# Altium integrated library Generalplus Devices.IntLib: 35 symbols (part 2 of 2)
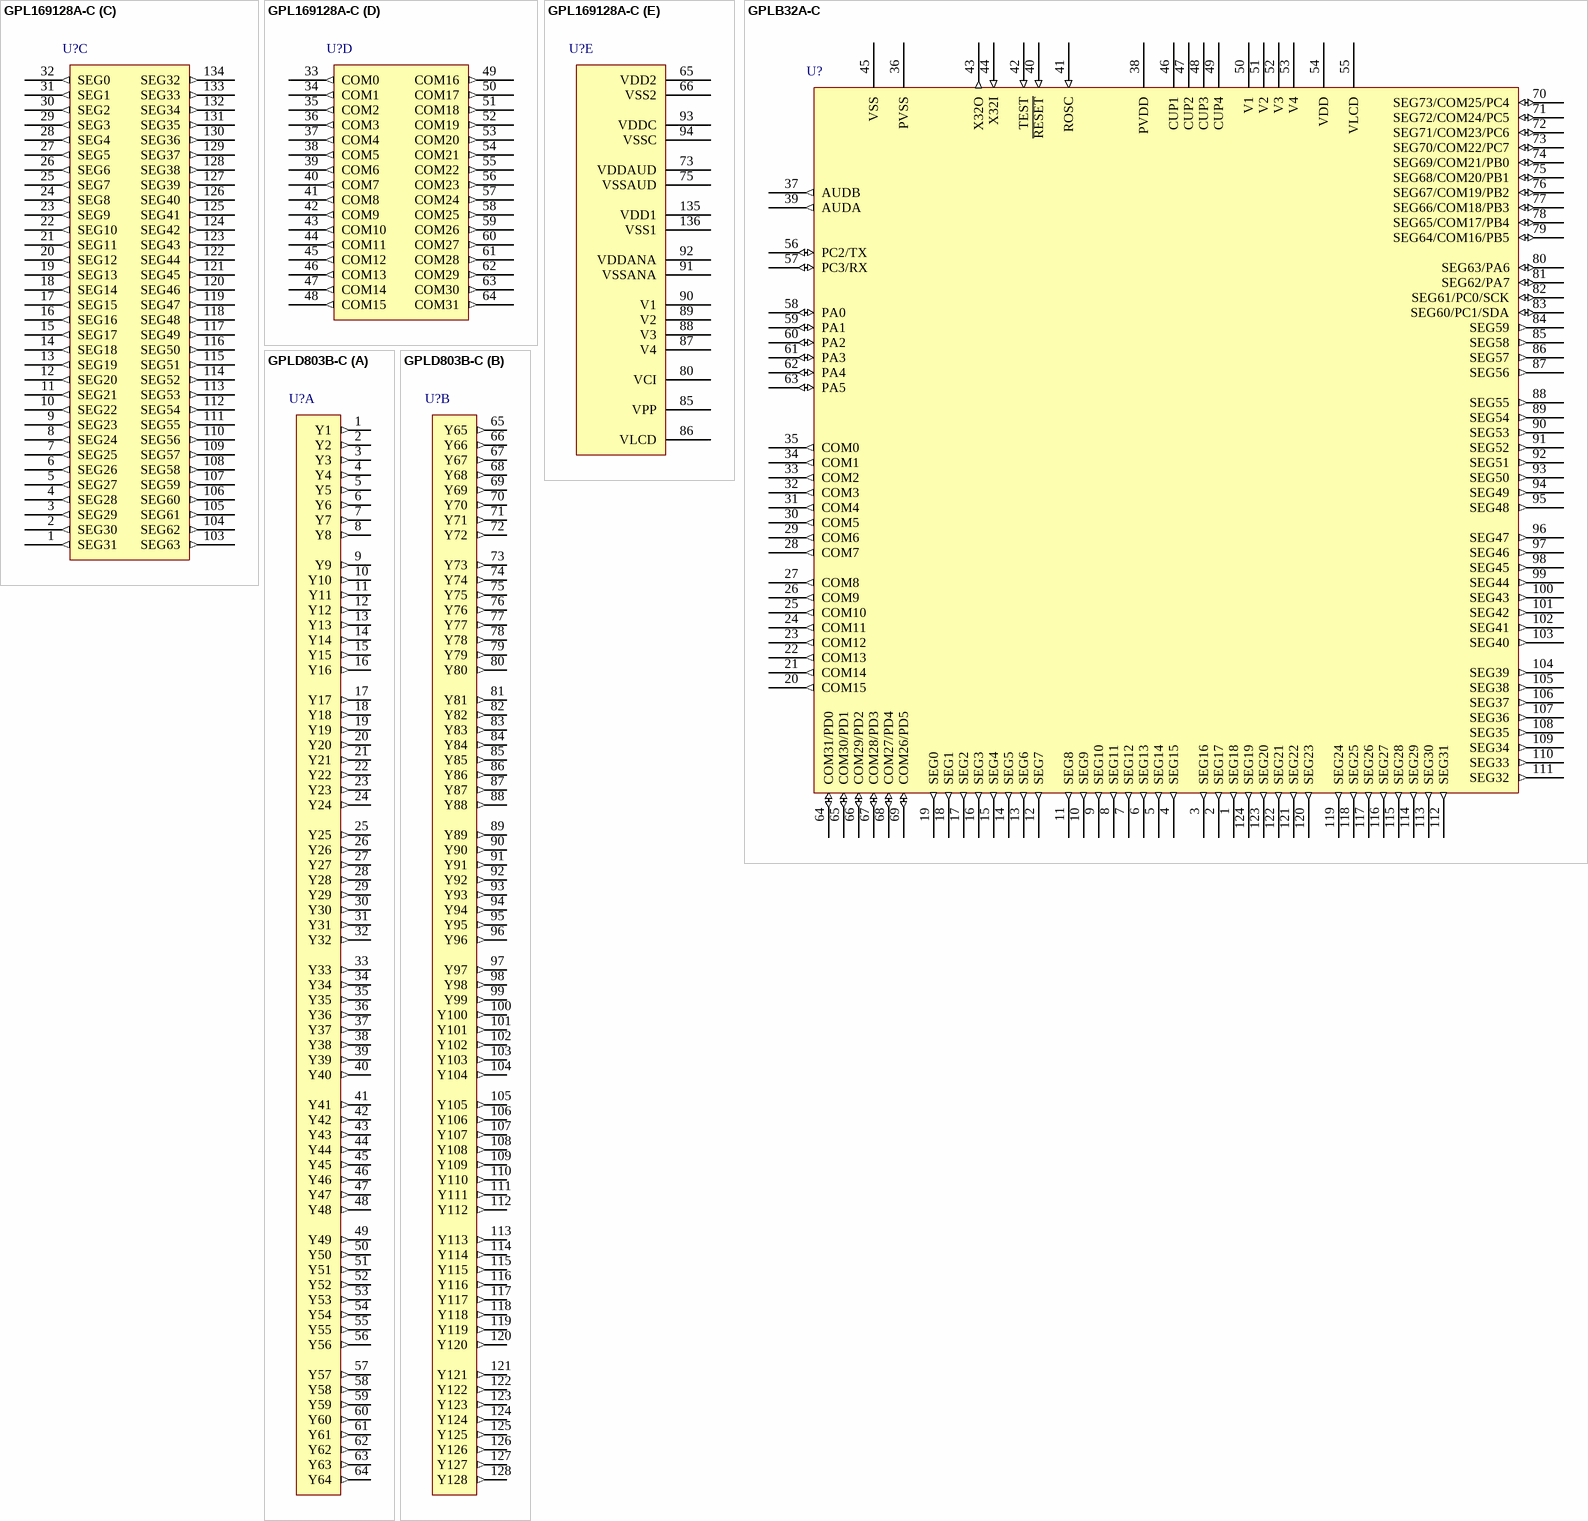
[diagram p6: symbols GPL169128A-C to GPLD803B-C]

## GPLB32A-C
designator U?
8-bit LCD Controller, 5MHz CPU, 512KB ROM, 1216Bytes SRAM, 2048-Dot LCD Driver, Chip Form; PackageForm: Supplied as a Die.; Note: This IC substrate should be connected to VSS; Published: 30-Mar-2007; DatasheetVersion: ver1.4, Dec-2006; PackageReference: Chip_Form; Publisher: Altium Limited; ComponentLink1Description: Manufacturer Link; ComponentLink1URL: http://www.generalplus.com/; ComponentLink2Description: Datasheet; ComponentLink2URL: http://www.generalplus.com/products/lcdcontroller/datasheet/GPLB32AV14_ds.pdf
pins: 1 SEG18 (out), 2 SEG17 (out), 3 SEG16 (out), 4 SEG15 (out), 5 SEG14 (out), 6 SEG13 (out), 7 SEG12 (out), 8 SEG11 (out), 9 SEG10 (out), 10 SEG9 (out), 11 SEG8 (out), 12 SEG7 (out), 13 SEG6 (out), 14 SEG5 (out), 15 SEG4 (out), 16 SEG3 (out), 17 SEG2 (out), 18 SEG1 (out), 19 SEG0 (out), 20 COM15 (out), 21 COM14 (out), 22 COM13 (out), 23 COM12 (out), 24 COM11 (out), 25 COM10 (out), 26 COM9 (out), 27 COM8 (out), 28 COM7 (out), 29 COM6 (out), 30 COM5 (out), 31 COM4 (out), 32 COM3 (out), 33 COM2 (out), 34 COM1 (out), 35 COM0 (out), 36 PVSS (power), 37 AUDB (out), 38 PVDD (power), 39 AUDA (out), 40 ~{RESET} (in), 41 ROSC (in), 42 TEST (in), 43 X32O (out), 44 X32I (in), 45 VSS (power), 46 CUP1, 47 CUP2, 48 CUP3, 49 CUP4, 50 V1 (power), 51 V2 (power), 52 V3 (power), 53 V4 (power), 54 VDD (power), 55 VLCD (power), 56 PC2/TX (io), 57 PC3/RX (io), 58 PA0 (io), 59 PA1 (io), 60 PA2 (io), 61 PA3 (io), 62 PA4 (io), 63 PA5 (io), 64 COM31/PD0 (io), 65 COM30/PD1 (io), 66 COM29/PD2 (io), 67 COM28/PD3 (io), 68 COM27/PD4 (io), 69 COM26/PD5 (io), 70 SEG73/COM25/PC4 (io), 71 SEG72/COM24/PC5 (io), 72 SEG71/COM23/PC6 (io), 73 SEG70/COM22/PC7 (io), 74 SEG69/COM21/PB0 (io), 75 SEG68/COM20/PB1 (io), 76 SEG67/COM19/PB2 (io), 77 SEG66/COM18/PB3 (io), 78 SEG65/COM17/PB4 (io), 79 SEG64/COM16/PB5 (io), 80 SEG63/PA6 (io), 81 SEG62/PA7 (io), 82 SEG61/PC0/SCK (io), 83 SEG60/PC1/SDA (io), 84 SEG59 (out), 85 SEG58 (out), 86 SEG57 (out), 87 SEG56 (out), 88 SEG55 (out), 89 SEG54 (out), 90 SEG53 (out), 91 SEG52 (out), 92 SEG51 (out), 93 SEG50 (out), 94 SEG49 (out), 95 SEG48 (out), 96 SEG47 (out), 97 SEG46 (out), 98 SEG45 (out), 99 SEG44 (out), 100 SEG43 (out), 101 SEG42 (out), 102 SEG41 (out), 103 SEG40 (out), 104 SEG39 (out), 105 SEG38 (out), 106 SEG37 (out), 107 SEG36 (out), 108 SEG35 (out), 109 SEG34 (out), 110 SEG33 (out), 111 SEG32 (out), 112 SEG31 (out), 113 SEG30 (out), 114 SEG29 (out), 115 SEG28 (out), 116 SEG27 (out), 117 SEG26 (out), 118 SEG25 (out), 119 SEG24 (out), 120 SEG23 (out), 121 SEG22 (out), 122 SEG21 (out), 123 SEG20 (out), 124 SEG19 (out)

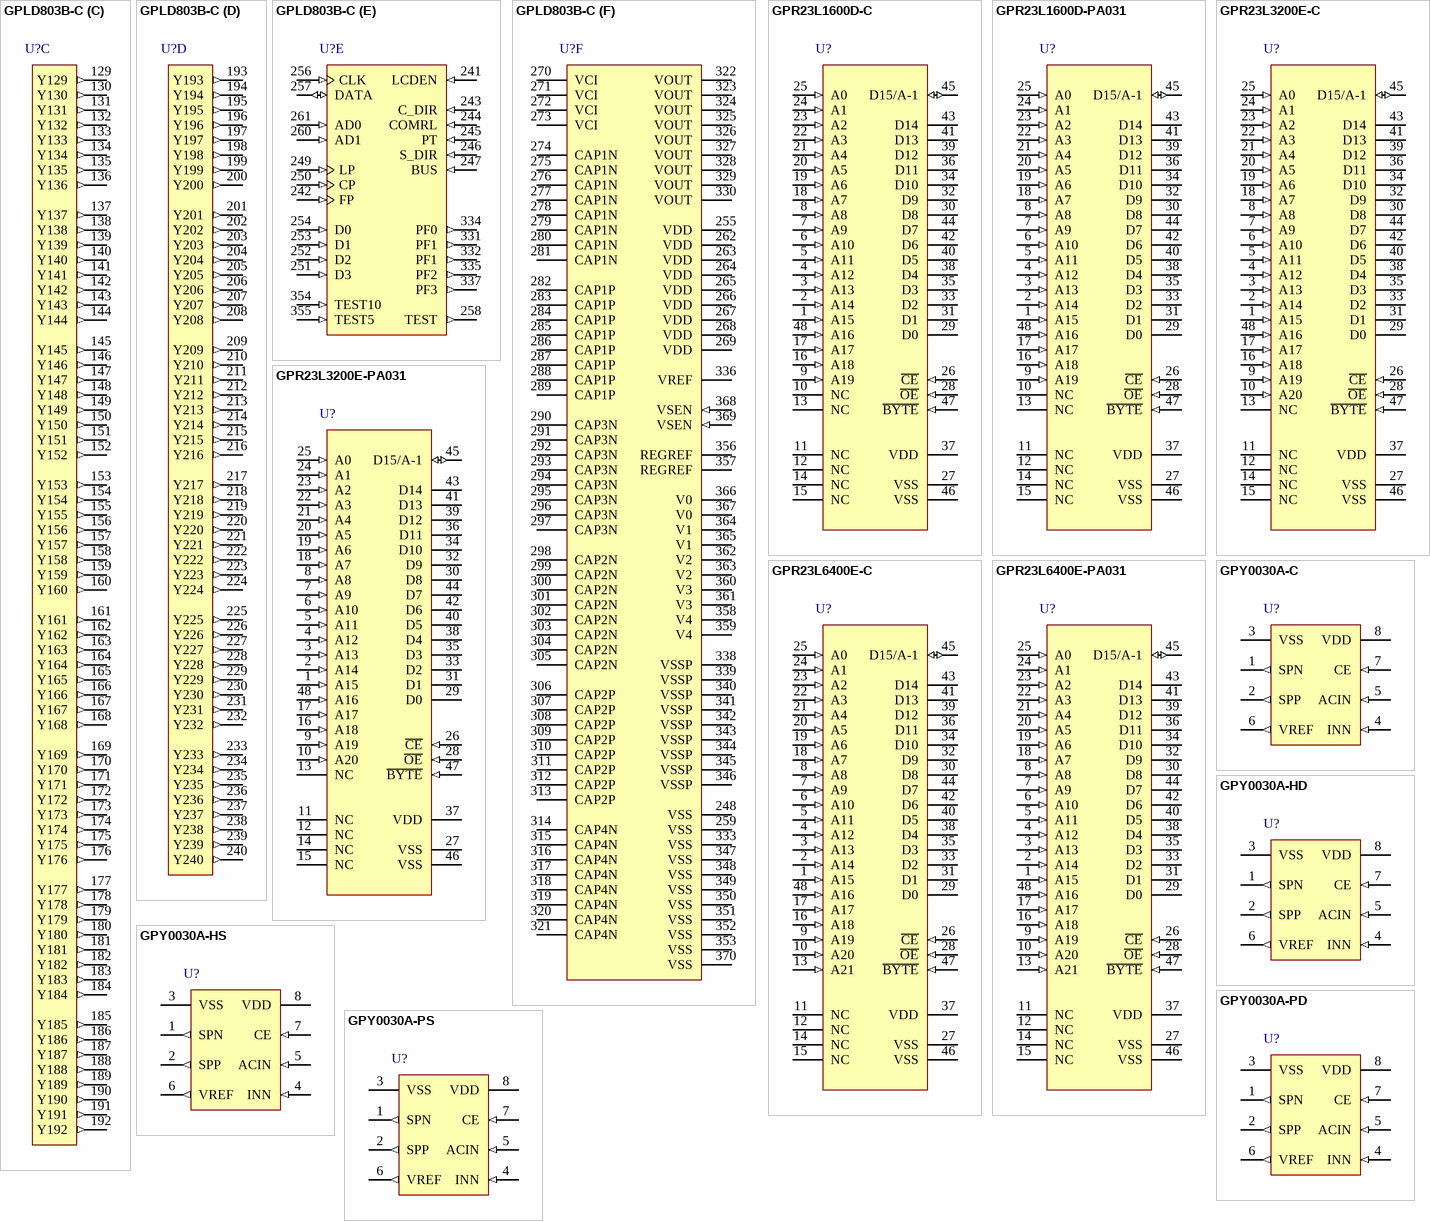
[diagram p5: symbols GPLD803B-C to GPY0030A-PS]

## GPLD803B-C
designator U?
LCD Driver,  4-Gray Scale Dot Matrix, 80x160 COMxSEG Outputs, Chip Form; PackageForm: Supplied as a Die.; Published: 30-Mar-2007; DatasheetVersion: ver1.1, Jul-2006; PackageReference: Chip_Form; Publisher: Altium Limited; ComponentLink1Description: Manufacturer Link; ComponentLink1URL: http://www.generalplus.com/; ComponentLink2Description: Datasheet; ComponentLink2URL: http://www.generalplus.com/products/lcddriver/datasheet/GPLD803BV11_ds.pdf
part A pins: 1 Y1 (out), 2 Y2 (out), 3 Y3 (out), 4 Y4 (out), 5 Y5 (out), 6 Y6 (out), 7 Y7 (out), 8 Y8 (out), 9 Y9 (out), 10 Y10 (out), 11 Y11 (out), 12 Y12 (out), 13 Y13 (out), 14 Y14 (out), 15 Y15 (out), 16 Y16 (out), 17 Y17 (out), 18 Y18 (out), 19 Y19 (out), 20 Y20 (out), 21 Y21 (out), 22 Y22 (out), 23 Y23 (out), 24 Y24 (out), 25 Y25 (out), 26 Y26 (out), 27 Y27 (out), 28 Y28 (out), 29 Y29 (out), 30 Y30 (out), 31 Y31 (out), 32 Y32 (out), 33 Y33 (out), 34 Y34 (out), 35 Y35 (out), 36 Y36 (out), 37 Y37 (out), 38 Y38 (out), 39 Y39 (out), 40 Y40 (out), 41 Y41 (out), 42 Y42 (out), 43 Y43 (out), 44 Y44 (out), 45 Y45 (out), 46 Y46 (out), 47 Y47 (out), 48 Y48 (out), 49 Y49 (out), 50 Y50 (out), 51 Y51 (out), 52 Y52 (out), 53 Y53 (out), 54 Y54 (out), 55 Y55 (out), 56 Y56 (out), 57 Y57 (out), 58 Y58 (out), 59 Y59 (out), 60 Y60 (out), 61 Y61 (out), 62 Y62 (out), 63 Y63 (out), 64 Y64 (out)
part B pins: 65 Y65 (out), 66 Y66 (out), 67 Y67 (out), 68 Y68 (out), 69 Y69 (out), 70 Y70 (out), 71 Y71 (out), 72 Y72 (out), 73 Y73 (out), 74 Y74 (out), 75 Y75 (out), 76 Y76 (out), 77 Y77 (out), 78 Y78 (out), 79 Y79 (out), 80 Y80 (out), 81 Y81 (out), 82 Y82 (out), 83 Y83 (out), 84 Y84 (out), 85 Y85 (out), 86 Y86 (out), 87 Y87 (out), 88 Y88 (out), 89 Y89 (out), 90 Y90 (out), 91 Y91 (out), 92 Y92 (out), 93 Y93 (out), 94 Y94 (out), 95 Y95 (out), 96 Y96 (out), 97 Y97 (out), 98 Y98 (out), 99 Y99 (out), 100 Y100 (out), 101 Y101 (out), 102 Y102 (out), 103 Y103 (out), 104 Y104 (out), 105 Y105 (out), 106 Y106 (out), 107 Y107 (out), 108 Y108 (out), 109 Y109 (out), 110 Y110 (out), 111 Y111 (out), 112 Y112 (out), 113 Y113 (out), 114 Y114 (out), 115 Y115 (out), 116 Y116 (out), 117 Y117 (out), 118 Y118 (out), 119 Y119 (out), 120 Y120 (out), 121 Y121 (out), 122 Y122 (out), 123 Y123 (out), 124 Y124 (out), 125 Y125 (out), 126 Y126 (out), 127 Y127 (out), 128 Y128 (out)
part C pins: 129 Y129 (out), 130 Y130 (out), 131 Y131 (out), 132 Y132 (out), 133 Y133 (out), 134 Y134 (out), 135 Y135 (out), 136 Y136 (out), 137 Y137 (out), 138 Y138 (out), 139 Y139 (out), 140 Y140 (out), 141 Y141 (out), 142 Y142 (out), 143 Y143 (out), 144 Y144 (out), 145 Y145 (out), 146 Y146 (out), 147 Y147 (out), 148 Y148 (out), 149 Y149 (out), 150 Y150 (out), 151 Y151 (out), 152 Y152 (out), 153 Y153 (out), 154 Y154 (out), 155 Y155 (out), 156 Y156 (out), 157 Y157 (out), 158 Y158 (out), 159 Y159 (out), 160 Y160 (out), 161 Y161 (out), 162 Y162 (out), 163 Y163 (out), 164 Y164 (out), 165 Y165 (out), 166 Y166 (out), 167 Y167 (out), 168 Y168 (out), 169 Y169 (out), 170 Y170 (out), 171 Y171 (out), 172 Y172 (out), 173 Y173 (out), 174 Y174 (out), 175 Y175 (out), 176 Y176 (out), 177 Y177 (out), 178 Y178 (out), 179 Y179 (out), 180 Y180 (out), 181 Y181 (out), 182 Y182 (out), 183 Y183 (out), 184 Y184 (out), 185 Y185 (out), 186 Y186 (out), 187 Y187 (out), 188 Y188 (out), 189 Y189 (out), 190 Y190 (out), 191 Y191 (out), 192 Y192 (out)
part D pins: 193 Y193 (out), 194 Y194 (out), 195 Y195 (out), 196 Y196 (out), 197 Y197 (out), 198 Y198 (out), 199 Y199 (out), 200 Y200 (out), 201 Y201 (out), 202 Y202 (out), 203 Y203 (out), 204 Y204 (out), 205 Y205 (out), 206 Y206 (out), 207 Y207 (out), 208 Y208 (out), 209 Y209 (out), 210 Y210 (out), 211 Y211 (out), 212 Y212 (out), 213 Y213 (out), 214 Y214 (out), 215 Y215 (out), 216 Y216 (out), 217 Y217 (out), 218 Y218 (out), 219 Y219 (out), 220 Y220 (out), 221 Y221 (out), 222 Y222 (out), 223 Y223 (out), 224 Y224 (out), 225 Y225 (out), 226 Y226 (out), 227 Y227 (out), 228 Y228 (out), 229 Y229 (out), 230 Y230 (out), 231 Y231 (out), 232 Y232 (out), 233 Y233 (out), 234 Y234 (out), 235 Y235 (out), 236 Y236 (out), 237 Y237 (out), 238 Y238 (out), 239 Y239 (out), 240 Y240 (out)
part E pins: 241 LCDEN (in), 242 FP (in), 243 C_DIR (in), 244 COMRL (in), 245 PT (in), 246 S_DIR (in), 247 BUS (in), 249 LP (in), 250 CP (in), 251 D3 (in), 252 D2 (in), 253 D1 (in), 254 D0 (in), 256 CLK (in), 257 DATA (io), 258 TEST (out), 260 AD1 (in), 261 AD0 (in), 331 PF1 (out), 332 PF1 (out), 334 PF0 (out), 335 PF2 (out), 337 PF3 (out), 354 TEST10 (in), 355 TEST5 (in)
part F pins: 248 VSS (power), 255 VDD (power), 259 VSS (power), 262 VDD (power), 263 VDD (power), 264 VDD (power), 265 VDD (power), 266 VDD (power), 267 VDD (power), 268 VDD (power), 269 VDD (power), 270 VCI (power), 271 VCI (power), 272 VCI (power), 273 VCI (power), 274 CAP1N, 275 CAP1N, 276 CAP1N, 277 CAP1N, 278 CAP1N, 279 CAP1N, 280 CAP1N, 281 CAP1N, 282 CAP1P, 283 CAP1P, 284 CAP1P, 285 CAP1P, 286 CAP1P, 287 CAP1P, 288 CAP1P, 289 CAP1P, 290 CAP3N, 291 CAP3N, 292 CAP3N, 293 CAP3N, 294 CAP3N, 295 CAP3N, 296 CAP3N, 297 CAP3N, 298 CAP2N, 299 CAP2N, 300 CAP2N, 301 CAP2N, 302 CAP2N, 303 CAP2N, 304 CAP2N, 305 CAP2N, 306 CAP2P, 307 CAP2P, 308 CAP2P, 309 CAP2P, 310 CAP2P, 311 CAP2P, 312 CAP2P, 313 CAP2P, 314 CAP4N, 315 CAP4N, 316 CAP4N, 317 CAP4N, 318 CAP4N, 319 CAP4N, 320 CAP4N, 321 CAP4N, 322 VOUT (power), 323 VOUT (power), 324 VOUT (power), 325 VOUT (power), 326 VOUT (power), 327 VOUT (power), 328 VOUT (power), 329 VOUT (power), 330 VOUT (power), 333 VSS (power), 336 VREF (power), 338 VSSP (power), 339 VSSP (power), 340 VSSP (power), 341 VSSP (power), 342 VSSP (power), 343 VSSP (power), 344 VSSP (power), 345 VSSP (power), 346 VSSP (power), 347 VSS (power), 348 VSS (power), 349 VSS (power), 350 VSS (power), 351 VSS (power), 352 VSS (power), 353 VSS (power), 356 REGREF (power), 357 REGREF (power), 358 V4 (power), 359 V4 (power), 360 V3 (power), 361 V3 (power), 362 V2 (power), 363 V2 (power), 364 V1 (power), 365 V1 (power), 366 V0 (power), 367 V0 (power), 368 VSEN (in), 369 VSEN (in), 370 VSS (power)

## GPR23L1600D-C
designator U?
16M-bit Mask ROM Memory, Chip Form; PackageForm: Supplied as a Die.; Published: 30-Mar-2007; DatasheetVersion: ver1.1, Mar-2006; PackageReference: Chip_Form; Publisher: Altium Limited; ComponentLink1Description: Manufacturer Link; ComponentLink1URL: http://www.generalplus.com/; ComponentLink2Description: Datasheet; ComponentLink2URL: http://www.generalplus.com/products/memory/datasheet/GPR23L1600DV11_ds.pdf
pins: 1 A15 (in) "Address.", 2 A14 (in) "Address.", 3 A13 (in) "Address.", 4 A12 (in) "Address.", 5 A11 (in) "Address.", 6 A10 (in) "Address.", 7 A9 (in) "Address.", 8 A8 (in) "Address.", 9 A19 (in) "Address.", 10 NC "No Connection.", 11 NC "No Connection.", 12 NC "No Connection.", 13 NC "No Connection.", 14 NC "No Connection.", 15 NC "No Connection.", 16 A18 (in) "Address.", 17 A17 (in) "Address.", 18 A7 (in) "Address.", 19 A6 (in) "Address.", 20 A5 (in) "Address.", 21 A4 (in) "Address.", 22 A3 (in) "Address.", 23 A2 (in) "Address.", 24 A1 (in) "Address.", 25 A0 (in) "Address.", 26 ~{CE} (in) "Chip Enable.", 27 VSS (power) "Ground.", 28 ~{OE} (in) "Output Enable.", 29 D0 (hiz) "Data.", 30 D8 (hiz) "Data.", 31 D1 (hiz) "Data.", 32 D9 (hiz) "Data.", 33 D2 (hiz) "Data.", 34 D10 (hiz) "Data.", 35 D3 (hiz) "Data.", 36 D11 (hiz) "Data.", 37 VDD (power) "Power Supply", 38 D4 (hiz) "Data.", 39 D12 (hiz) "Data.", 40 D5 (hiz) "Data.", 41 D13 (hiz) "Data.", 42 D6 (hiz) "Data.", 43 D14 (hiz) "Data.", 44 D7 (hiz) "Data.", 45 D15/A-1 (io) "D15 (Word Mode)/LSB Address (Byte Mode).", 46 VSS (power) "Ground.", 47 ~{BYTE} (in) "Word/Byte Mode Selection.", 48 A16 (in) "Address."

## GPR23L1600D-PA031
designator U?
16M-bit Mask ROM Memory, 48-Pin TSOP; Published: 30-Mar-2007; DatasheetVersion: ver1.1, Mar-2006; PackageVersion: Mar-2006; PackageReference: TSOP48; Publisher: Altium Limited; PackageDescription: 48-Pin Thin Shrink Plastic Small Outline Package 0.5 mm Pitch; ComponentLink1Description: Manufacturer Link; ComponentLink1URL: http://www.generalplus.com/; ComponentLink2Description: Datasheet; ComponentLink2URL: http://www.generalplus.com/products/memory/datasheet/GPR23L1600DV11_ds.pdf
footprint TSOP48_N (TSSOP, 48-Leads, Body 12x18.4mm, Pitch 0.5mm, IPC Medium Density)
footprint TSOP48_L (TSSOP, 48-Leads, Body 12x18.4mm, Pitch 0.5mm, IPC High Density)
footprint TSOP48_M (TSSOP, 48-Leads, Body 12x18.4mm, Pitch 0.5mm, IPC Low Density)
pins: 1 A15 (in) "Address.", 2 A14 (in) "Address.", 3 A13 (in) "Address.", 4 A12 (in) "Address.", 5 A11 (in) "Address.", 6 A10 (in) "Address.", 7 A9 (in) "Address.", 8 A8 (in) "Address.", 9 A19 (in) "Address.", 10 NC "No Connection.", 11 NC "No Connection.", 12 NC "No Connection.", 13 NC "No Connection.", 14 NC "No Connection.", 15 NC "No Connection.", 16 A18 (in) "Address.", 17 A17 (in) "Address.", 18 A7 (in) "Address.", 19 A6 (in) "Address.", 20 A5 (in) "Address.", 21 A4 (in) "Address.", 22 A3 (in) "Address.", 23 A2 (in) "Address.", 24 A1 (in) "Address.", 25 A0 (in) "Address.", 26 ~{CE} (in) "Chip Enable.", 27 VSS (power) "Ground.", 28 ~{OE} (in) "Output Enable.", 29 D0 (hiz) "Data.", 30 D8 (hiz) "Data.", 31 D1 (hiz) "Data.", 32 D9 (hiz) "Data.", 33 D2 (hiz) "Data.", 34 D10 (hiz) "Data.", 35 D3 (hiz) "Data.", 36 D11 (hiz) "Data.", 37 VDD (power) "Power Supply", 38 D4 (hiz) "Data.", 39 D12 (hiz) "Data.", 40 D5 (hiz) "Data.", 41 D13 (hiz) "Data.", 42 D6 (hiz) "Data.", 43 D14 (hiz) "Data.", 44 D7 (hiz) "Data.", 45 D15/A-1 (io) "D15 (Word Mode)/LSB Address (Byte Mode).", 46 VSS (power) "Ground.", 47 ~{BYTE} (in) "Word/Byte Mode Selection.", 48 A16 (in) "Address."

## GPR23L3200E-C
designator U?
32M-bit Mask ROM Memory, Chip Form; PackageForm: Supplied as a Die.; Published: 30-Mar-2007; DatasheetVersion: ver1.2, Mar-2006; PackageReference: Chip_Form; Publisher: Altium Limited; ComponentLink1Description: Manufacturer Link; ComponentLink1URL: http://www.generalplus.com/; ComponentLink2Description: Datasheet; ComponentLink2URL: http://www.generalplus.com/products/memory/datasheet/GPR23L3200EV12_ds.pdf
pins: 1 A15 (in) "Address.", 2 A14 (in) "Address.", 3 A13 (in) "Address.", 4 A12 (in) "Address.", 5 A11 (in) "Address.", 6 A10 (in) "Address.", 7 A9 (in) "Address.", 8 A8 (in) "Address.", 9 A19 (in) "Address.", 10 A20 (in) "Address.", 11 NC "No Connection.", 12 NC "No Connection.", 13 NC "No Connection.", 14 NC "No Connection.", 15 NC "No Connection.", 16 A18 (in) "Address.", 17 A17 (in) "Address.", 18 A7 (in) "Address.", 19 A6 (in) "Address.", 20 A5 (in) "Address.", 21 A4 (in) "Address.", 22 A3 (in) "Address.", 23 A2 (in) "Address.", 24 A1 (in) "Address.", 25 A0 (in) "Address.", 26 ~{CE} (in) "Chip Enable.", 27 VSS (power) "Ground.", 28 ~{OE} (in) "Output Enable.", 29 D0 (hiz) "Data.", 30 D8 (hiz) "Data.", 31 D1 (hiz) "Data.", 32 D9 (hiz) "Data.", 33 D2 (hiz) "Data.", 34 D10 (hiz) "Data.", 35 D3 (hiz) "Data.", 36 D11 (hiz) "Data.", 37 VDD (power) "Power Supply", 38 D4 (hiz) "Data.", 39 D12 (hiz) "Data.", 40 D5 (hiz) "Data.", 41 D13 (hiz) "Data.", 42 D6 (hiz) "Data.", 43 D14 (hiz) "Data.", 44 D7 (hiz) "Data.", 45 D15/A-1 (io) "D15 (Word Mode)/LSB Address (Byte Mode).", 46 VSS (power) "Ground.", 47 ~{BYTE} (in) "Word/Byte Mode Selection.", 48 A16 (in) "Address."

## GPR23L3200E-PA031
designator U?
32M-bit Mask ROM Memory, 48-Pin TSOP; Published: 30-Mar-2007; DatasheetVersion: ver1.2, Mar-2006; PackageVersion: Mar-2006; PackageReference: TSOP48; Publisher: Altium Limited; PackageDescription: 48-Pin Thin Shrink Plastic Small Outline Package 0.5 mm Pitch; ComponentLink1Description: Manufacturer Link; ComponentLink1URL: http://www.generalplus.com/; ComponentLink2Description: Datasheet; ComponentLink2URL: http://www.generalplus.com/products/memory/datasheet/GPR23L3200EV12_ds.pdf
footprint TSOP48_N (TSSOP, 48-Leads, Body 12x18.4mm, Pitch 0.5mm, IPC Medium Density)
footprint TSOP48_L (TSSOP, 48-Leads, Body 12x18.4mm, Pitch 0.5mm, IPC High Density)
footprint TSOP48_M (TSSOP, 48-Leads, Body 12x18.4mm, Pitch 0.5mm, IPC Low Density)
pins: 1 A15 (in) "Address.", 2 A14 (in) "Address.", 3 A13 (in) "Address.", 4 A12 (in) "Address.", 5 A11 (in) "Address.", 6 A10 (in) "Address.", 7 A9 (in) "Address.", 8 A8 (in) "Address.", 9 A19 (in) "Address.", 10 A20 (in) "Address.", 11 NC "No Connection.", 12 NC "No Connection.", 13 NC "No Connection.", 14 NC "No Connection.", 15 NC "No Connection.", 16 A18 (in) "Address.", 17 A17 (in) "Address.", 18 A7 (in) "Address.", 19 A6 (in) "Address.", 20 A5 (in) "Address.", 21 A4 (in) "Address.", 22 A3 (in) "Address.", 23 A2 (in) "Address.", 24 A1 (in) "Address.", 25 A0 (in) "Address.", 26 ~{CE} (in) "Chip Enable.", 27 VSS (power) "Ground.", 28 ~{OE} (in) "Output Enable.", 29 D0 (hiz) "Data.", 30 D8 (hiz) "Data.", 31 D1 (hiz) "Data.", 32 D9 (hiz) "Data.", 33 D2 (hiz) "Data.", 34 D10 (hiz) "Data.", 35 D3 (hiz) "Data.", 36 D11 (hiz) "Data.", 37 VDD (power) "Power Supply", 38 D4 (hiz) "Data.", 39 D12 (hiz) "Data.", 40 D5 (hiz) "Data.", 41 D13 (hiz) "Data.", 42 D6 (hiz) "Data.", 43 D14 (hiz) "Data.", 44 D7 (hiz) "Data.", 45 D15/A-1 (io) "D15 (Word Mode)/LSB Address (Byte Mode).", 46 VSS (power) "Ground.", 47 ~{BYTE} (in) "Word/Byte Mode Selection.", 48 A16 (in) "Address."

## GPR23L6400E-C
designator U?
64M-bit Mask ROM Memory, Chip Form; PackageForm: Supplied as a Die.; Published: 30-Mar-2007; DatasheetVersion: ver1.2, Mar-2006; PackageReference: Chip_Form; Publisher: Altium Limited; ComponentLink1Description: Manufacturer Link; ComponentLink1URL: http://www.generalplus.com/; ComponentLink2Description: Datasheet; ComponentLink2URL: http://www.generalplus.com/products/memory/datasheet/GPR23L6400EV12_ds.pdf
pins: 1 A15 (in) "Address.", 2 A14 (in) "Address.", 3 A13 (in) "Address.", 4 A12 (in) "Address.", 5 A11 (in) "Address.", 6 A10 (in) "Address.", 7 A9 (in) "Address.", 8 A8 (in) "Address.", 9 A19 (in) "Address.", 10 A20 (in) "Address.", 11 NC "No Connection.", 12 NC "No Connection.", 13 A21 (in) "Address.", 14 NC "No Connection.", 15 NC "No Connection.", 16 A18 (in) "Address.", 17 A17 (in) "Address.", 18 A7 (in) "Address.", 19 A6 (in) "Address.", 20 A5 (in) "Address.", 21 A4 (in) "Address.", 22 A3 (in) "Address.", 23 A2 (in) "Address.", 24 A1 (in) "Address.", 25 A0 (in) "Address.", 26 ~{CE} (in) "Chip Enable.", 27 VSS (power) "Ground.", 28 ~{OE} (in) "Output Enable.", 29 D0 (hiz) "Data.", 30 D8 (hiz) "Data.", 31 D1 (hiz) "Data.", 32 D9 (hiz) "Data.", 33 D2 (hiz) "Data.", 34 D10 (hiz) "Data.", 35 D3 (hiz) "Data.", 36 D11 (hiz) "Data.", 37 VDD (power) "Power Supply", 38 D4 (hiz) "Data.", 39 D12 (hiz) "Data.", 40 D5 (hiz) "Data.", 41 D13 (hiz) "Data.", 42 D6 (hiz) "Data.", 43 D14 (hiz) "Data.", 44 D7 (hiz) "Data.", 45 D15/A-1 (io) "D15 (Word Mode)/LSB Address (Byte Mode).", 46 VSS (power) "Ground.", 47 ~{BYTE} (in) "Word/Byte Mode Selection.", 48 A16 (in) "Address."

## GPR23L6400E-PA031
designator U?
64M-bit Mask ROM Memory, 48-Pin TSOP; Published: 30-Mar-2007; DatasheetVersion: ver1.2, Mar-2006; PackageVersion: Mar-2006; PackageReference: TSOP48; Publisher: Altium Limited; PackageDescription: 48-Pin Thin Shrink Plastic Small Outline Package 0.5 mm Pitch; ComponentLink1Description: Manufacturer Link; ComponentLink1URL: http://www.generalplus.com/; ComponentLink2Description: Datasheet; ComponentLink2URL: http://www.generalplus.com/products/memory/datasheet/GPR23L6400EV12_ds.pdf
footprint TSOP48_N (TSSOP, 48-Leads, Body 12x18.4mm, Pitch 0.5mm, IPC Medium Density)
footprint TSOP48_L (TSSOP, 48-Leads, Body 12x18.4mm, Pitch 0.5mm, IPC High Density)
footprint TSOP48_M (TSSOP, 48-Leads, Body 12x18.4mm, Pitch 0.5mm, IPC Low Density)
pins: 1 A15 (in) "Address.", 2 A14 (in) "Address.", 3 A13 (in) "Address.", 4 A12 (in) "Address.", 5 A11 (in) "Address.", 6 A10 (in) "Address.", 7 A9 (in) "Address.", 8 A8 (in) "Address.", 9 A19 (in) "Address.", 10 A20 (in) "Address.", 11 NC "No Connection.", 12 NC "No Connection.", 13 A21 (in) "Address.", 14 NC "No Connection.", 15 NC "No Connection.", 16 A18 (in) "Address.", 17 A17 (in) "Address.", 18 A7 (in) "Address.", 19 A6 (in) "Address.", 20 A5 (in) "Address.", 21 A4 (in) "Address.", 22 A3 (in) "Address.", 23 A2 (in) "Address.", 24 A1 (in) "Address.", 25 A0 (in) "Address.", 26 ~{CE} (in) "Chip Enable.", 27 VSS (power) "Ground.", 28 ~{OE} (in) "Output Enable.", 29 D0 (hiz) "Data.", 30 D8 (hiz) "Data.", 31 D1 (hiz) "Data.", 32 D9 (hiz) "Data.", 33 D2 (hiz) "Data.", 34 D10 (hiz) "Data.", 35 D3 (hiz) "Data.", 36 D11 (hiz) "Data.", 37 VDD (power) "Power Supply", 38 D4 (hiz) "Data.", 39 D12 (hiz) "Data.", 40 D5 (hiz) "Data.", 41 D13 (hiz) "Data.", 42 D6 (hiz) "Data.", 43 D14 (hiz) "Data.", 44 D7 (hiz) "Data.", 45 D15/A-1 (io) "D15 (Word Mode)/LSB Address (Byte Mode).", 46 VSS (power) "Ground.", 47 ~{BYTE} (in) "Word/Byte Mode Selection.", 48 A16 (in) "Address."

## GPY0030A-C
designator U?
Audio Driver, Gain 20 (max), 2.4V - 6.8V range, Chip Form; PackageForm: Supplied as a Die.; Published: 30-Mar-2007; DatasheetVersion: ver1.1, Aug-2006; PackageReference: Chip_Form; Publisher: Altium Limited; ComponentLink1Description: Manufacturer Link; ComponentLink1URL: http://www.generalplus.com/; ComponentLink2Description: Datasheet; ComponentLink2URL: http://www.generalplus.com/products/others/datasheet/GPY0030AV11_ds.pdf
pins: 1 SPN (out) "Audio Output Negative", 2 SPP (out) "Audio Output Positive", 3 VSS (power) "Power VSS", 4 INN (in) "Signal Input Negative", 5 ACIN (in) "Signal Input Positive", 6 VREF (out) "Reference Voltage", 7 CE (in) "Chip Enable", 8 VDD (power) "Power VDD"

## GPY0030A-HD
designator U?
Audio Driver, Gain 20 (max), 2.4V - 6.8V range, 8-Pin PDIP (300mil), Pb-Free; Published: 30-Mar-2007; DatasheetVersion: ver1.1, Aug-2006; PackageVersion: Aug-2006; PackageReference: PDIP8; Publisher: Altium Limited; PackageDescription: DIP; 8 Leads; Row Spacing 7.62 mm; Pitch 2.54 mm; ComponentLink1Description: Manufacturer Link; ComponentLink1URL: http://www.generalplus.com/; ComponentLink2Description: Datasheet; ComponentLink2URL: http://www.generalplus.com/products/others/datasheet/GPY0030AV11_ds.pdf
footprint PDIP8 (DIP; 8 Leads; Row Spacing 7.62 mm; Pitch 2.54 mm)
pins: 1 SPN (out) "Audio Output Negative", 2 SPP (out) "Audio Output Positive", 3 VSS (power) "Power VSS", 4 INN (in) "Signal Input Negative", 5 ACIN (in) "Signal Input Positive", 6 VREF (out) "Reference Voltage", 7 CE (in) "Chip Enable", 8 VDD (power) "Power VDD"

## GPY0030A-HS
designator U?
Audio Driver, Gain 20 (max), 2.4V - 6.8V range, 8-Pin SOP (150mil), Pb-Free; Published: 30-Mar-2007; DatasheetVersion: ver1.1, Aug-2006; PackageVersion: Aug-2006; PackageReference: SOP8; Publisher: Altium Limited; PackageDescription: 8-Pin Small Outline Integrated Circuit 1.27 mm Pitch; Code_IPC: SOIC127P600-8; ComponentLink1Description: Manufacturer Link; ComponentLink1URL: http://www.generalplus.com/; ComponentLink2Description: Datasheet; ComponentLink2URL: http://www.generalplus.com/products/others/datasheet/GPY0030AV11_ds.pdf
footprint SOP8_N (SOIC, 8-Leads, Body 4.9x3.9mm, Pitch 1.27mm, IPC Medium Density)
footprint SOP8_L (SOIC, 8-Leads, Body 4.9x3.9mm, Pitch 1.27mm, IPC High Density)
footprint SOP8_M (SOIC, 8-Leads, Body 4.9x3.9mm, Pitch 1.27mm, IPC Low Density)
pins: 1 SPN (out) "Audio Output Negative", 2 SPP (out) "Audio Output Positive", 3 VSS (power) "Power VSS", 4 INN (in) "Signal Input Negative", 5 ACIN (in) "Signal Input Positive", 6 VREF (out) "Reference Voltage", 7 CE (in) "Chip Enable", 8 VDD (power) "Power VDD"

## GPY0030A-PD
designator U?
Audio Driver, Gain 20 (max), 2.4V - 6.8V range, 8-Pin PDIP (300mil); Published: 30-Mar-2007; DatasheetVersion: ver1.1, Aug-2006; PackageVersion: Aug-2006; PackageReference: PDIP8; Publisher: Altium Limited; PackageDescription: DIP; 8 Leads; Row Spacing 7.62 mm; Pitch 2.54 mm; ComponentLink1Description: Manufacturer Link; ComponentLink1URL: http://www.generalplus.com/; ComponentLink2Description: Datasheet; ComponentLink2URL: http://www.generalplus.com/products/others/datasheet/GPY0030AV11_ds.pdf
footprint PDIP8 (DIP; 8 Leads; Row Spacing 7.62 mm; Pitch 2.54 mm)
pins: 1 SPN (out) "Audio Output Negative", 2 SPP (out) "Audio Output Positive", 3 VSS (power) "Power VSS", 4 INN (in) "Signal Input Negative", 5 ACIN (in) "Signal Input Positive", 6 VREF (out) "Reference Voltage", 7 CE (in) "Chip Enable", 8 VDD (power) "Power VDD"

## GPY0030A-PS
designator U?
Audio Driver, Gain 20 (max), 2.4V - 6.8V range, 8-Pin SOP (150mil); Published: 30-Mar-2007; DatasheetVersion: ver1.1, Aug-2006; PackageVersion: Aug-2006; PackageReference: SOP8; Publisher: Altium Limited; PackageDescription: 8-Pin Small Outline Integrated Circuit 1.27 mm Pitch; Code_IPC: SOIC127P600-8; ComponentLink1Description: Manufacturer Link; ComponentLink1URL: http://www.generalplus.com/; ComponentLink2Description: Datasheet; ComponentLink2URL: http://www.generalplus.com/products/others/datasheet/GPY0030AV11_ds.pdf
footprint SOP8_N (SOIC, 8-Leads, Body 4.9x3.9mm, Pitch 1.27mm, IPC Medium Density)
footprint SOP8_L (SOIC, 8-Leads, Body 4.9x3.9mm, Pitch 1.27mm, IPC High Density)
footprint SOP8_M (SOIC, 8-Leads, Body 4.9x3.9mm, Pitch 1.27mm, IPC Low Density)
pins: 1 SPN (out) "Audio Output Negative", 2 SPP (out) "Audio Output Positive", 3 VSS (power) "Power VSS", 4 INN (in) "Signal Input Negative", 5 ACIN (in) "Signal Input Positive", 6 VREF (out) "Reference Voltage", 7 CE (in) "Chip Enable", 8 VDD (power) "Power VDD"